# EAGLE library part M24M01 (library Memory)
1 Mbit serial I2C bus EEPROM
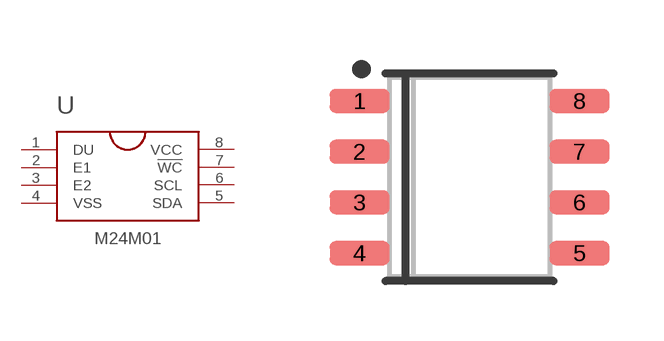
[diagram p7: symbol with the pads of S08N; footprint S08N]

Designator prefix U

## M24M01-RMN6TP (PARTNO: 01-100435-00)  [S08N]
1  DU  nc
2  E1  in
3  E2  in
4  VSS  pwr
5  SDA
6  SCL  in
7  !WC  in
8  VCC  pwr

## Footprint S08N (pad centres in mm)
SO8N - 8-Lead Plastic Small Outline 150 mils body
smd 1.5 x 0.6: 1 -2.75,1.905; 2 -2.75,0.635; 3 -2.75,-0.635; 4 -2.75,-1.905; 5 2.75,-1.905; 6 2.75,-0.635; 7 2.75,0.635; 8 2.75,1.905